# Altium footprint library TSSOP28.PcbLib: 1 footprints
Each footprint in its own frame and in the unit in brackets; x right, y up, seen from the top. Pads: shape width x height; smd on the part's side, far side on the other; paste and mask are expansions set on the pad; w line width, h text height; cw(c..) or ccw(c..) is an arc to the next point about the centre after c.
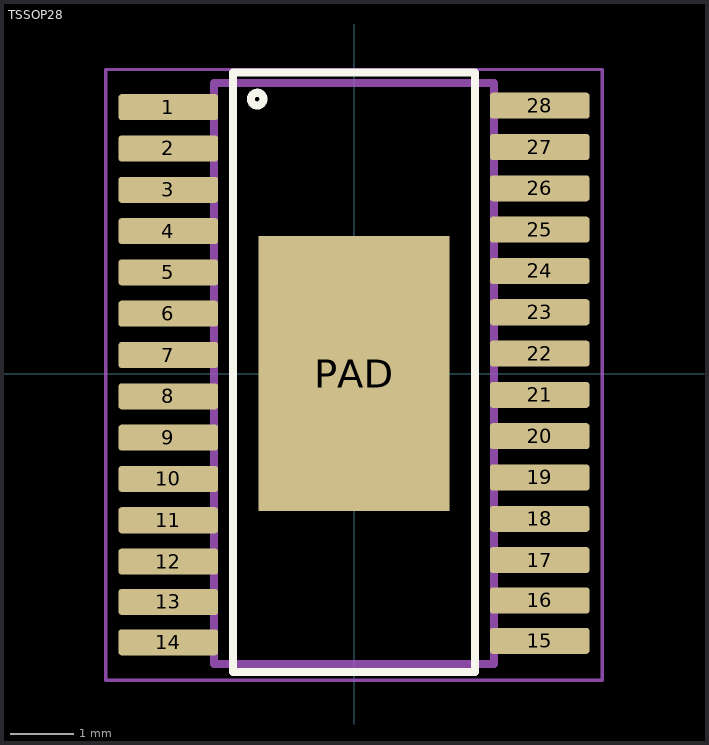
[diagram p0: the footprint, top view; thin cyan lines are the x and y axes]

## TSSOP28 [mm]
pads (29):
  rrect25% 1.57x0.41 smd: 1(-2.921,4.191) 2(-2.921,3.541) 3(-2.921,2.891) 4(-2.921,2.241) 5(-2.921,1.591) 6(-2.921,0.941) 7(-2.921,0.291) 8(-2.921,-0.359) 9(-2.921,-1.009) 10(-2.921,-1.659) 11(-2.921,-2.309) 12(-2.921,-2.959) 13(-2.921,-3.594) 14(-2.921,-4.229) 15(2.921,-4.206) 16(2.921,-3.571) 17(2.921,-2.936) 18(2.921,-2.286) 19(2.921,-1.636) 20(2.921,-0.986) 21(2.921,-0.336) 22(2.921,0.314) 23(2.921,0.964) 24(2.921,1.614) 25(2.921,2.264) 26(2.921,2.914) 27(2.921,3.564) 28(2.921,4.214)
  rect 3x4.32 smd: PAD(0,0)
Top Overlay:
  circle w0.127: c-1.524,4.318 r0.1
  lines w0.127: -1.905,4.699 -1.905,-4.699 1.894,-4.699 ; -1.905,4.735 1.905,4.735 ; 1.905,-4.699 1.905,4.699
Mechanical 13:
  lines w0.127: -2.2,-4.572 2.2,-4.572 2.2,4.572 -2.2,4.572 -2.2,-4.572
Mechanical 15:
  lines w0.05: -3.905,-4.826 3.905,-4.826 3.905,4.785 -3.905,4.785 -3.905,-4.826
3D body "TSSOP-28.step": height 1.2, standoff 0, extent -3.21,-4.85 3.211,4.85